# Altium schematic symbol library PM8800A.SchLib: 1 symbol
Pins are listed as number, name and electrical type; pins without a type are passive.

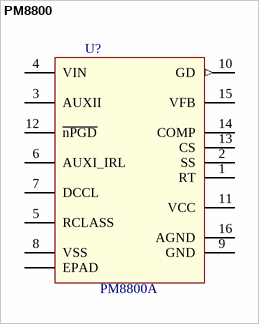
[diagram p0: symbol PM8800]

## PM8800
designator U?  value PM8800A  (hidden comment: PM8800)
pins: 1 RT, 2 SS, 3 AUXII, 4 VIN, 5 RCLASS, 6 AUXI_IRL, 7 DCCL, 8 VSS (power), 9 GND (power), 10 GD (out), 11 VCC (power), 12 ~{nPGD} (oc), 13 CS, 14 COMP, 15 VFB, 16 AGND, EPAD